# EAGLE library part XC3S400AFG320 (library xilinx_spartan3_virtex4_and_5)
Xilinx FPGA
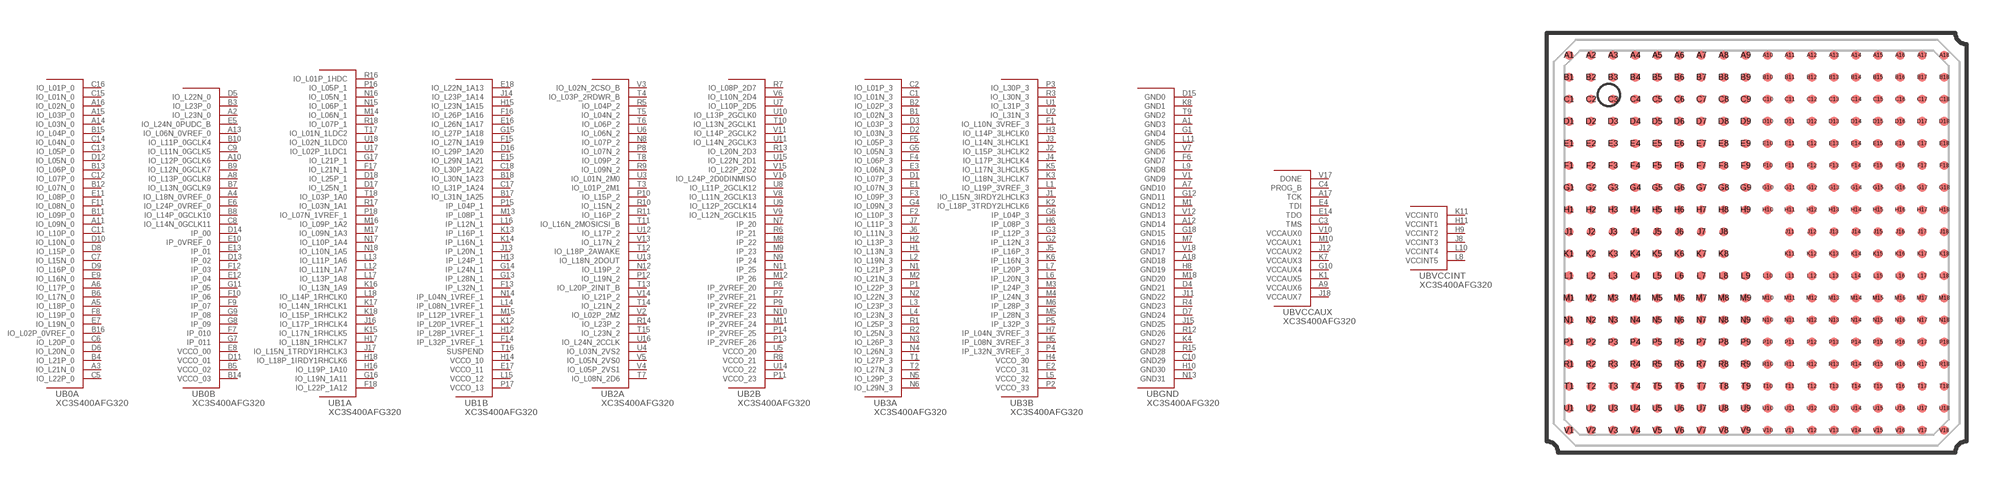
[diagram p32: symbol with the pads of FG320; footprint FG320]

Designator prefix U; gates B0A=XC3S400AFG320_0A B0B=XC3S400AFG320_0B B1A=XC3S400AFG320_1A B1B=XC3S400AFG320_1B B2A=XC3S400AFG320_2A B2B=XC3S400AFG320_2B B3A=XC3S400AFG320_3A B3B=XC3S400AFG320_3B BGND=XC3S400AFG320_GND BVCCAUX=XC3S400AFG320_VCCAUX BVCCINT=XC3S400AFG320_VCCINT

## XC3S400AFG320  [FG320]
A1  BGND:GND3  pas
A2  B0B:IO_L23N_0
A3  B0A:IO_L21N_0
A4  B0B:IO_L18N_0VREF_0
A5  B0A:IO_L18P_0
A6  B0A:IO_L17P_0
A7  BGND:GND10  pas
A8  B0B:IO_L13P_0GCLK8
A9  BVCCAUX:VCCAUX6  pas
A10  B0B:IO_L12P_0GCLK6
A11  B0A:IO_L09N_0
A12  BGND:GND14  pas
A13  B0B:IO_L06N_0VREF_0
A14  B0A:IO_L03N_0
A15  B0A:IO_L03P_0
A16  B0A:IO_L02N_0
A17  BVCCAUX:TCK
A18  BGND:GND18  pas
B1  B3A:IO_L02N_3
B2  B3A:IO_L02P_3
B3  B0B:IO_L23P_0
B4  B0A:IO_L21P_0
B5  B0B:VCCO_02  pas
B6  B0A:IO_L17N_0
B7  B0B:IO_L13N_0GCLK9
B8  B0B:IO_L14P_0GCLK10
B9  B0B:IO_L12N_0GCLK7
B10  B0B:IO_L11P_0GCLK4
B11  B0A:IO_L09P_0
B12  B0A:IO_L07N_0
B13  B0A:IO_L06P_0
B14  B0B:VCCO_03  pas
B15  B0A:IO_L04P_0
B16  B0A:IO_L02P_0VREF_0
B17  B1B:IO_L31N_1A25
B18  B1B:IO_L30N_1A23
C1  B3A:IO_L01N_3
C2  B3A:IO_L01P_3
C3  BVCCAUX:TMS
C4  BVCCAUX:PROG_B
C5  B0A:IO_L22P_0
C6  B0A:IO_L20P_0
C7  B0A:IO_L15N_0
C8  B0B:IO_L14N_0GCLK11
C9  B0B:IO_L11N_0GCLK5
C10  BGND:GND29  pas
C11  B0A:IO_L10P_0
C12  B0A:IO_L07P_0
C13  B0A:IO_L05P_0
C14  B0A:IO_L04N_0
C15  B0A:IO_L01N_0
C16  B0A:IO_L01P_0
C17  B1B:IO_L31P_1A24
C18  B1B:IO_L30P_1A22
D1  B3A:IO_L07P_3
D2  B3A:IO_L03N_3
D3  B3A:IO_L03P_3
D4  BGND:GND21  pas
D5  B0B:IO_L22N_0
D6  B0A:IO_L20N_0
D7  BGND:GND24  pas
D8  B0A:IO_L15P_0
D9  B0A:IO_L16P_0
D10  B0A:IO_L10N_0
D11  B0B:VCCO_01  pas
D12  B0A:IO_L05N_0
D13  B0B:IP_02
D14  B0B:IP_00
D15  BGND:GND0  pas
D16  B1B:IO_L29P_1A20
D17  B1A:IO_L25N_1
D18  B1A:IO_L25P_1
E1  B3A:IO_L07N_3
E2  B3B:VCCO_31  pas
E3  B3A:IO_L06N_3
E4  BVCCAUX:TDI
E5  B0B:IO_L24N_0PUDC_B
E6  B0B:IO_L24P_0VREF_0
E7  B0A:IO_L19N_0
E8  B0B:VCCO_00  pas
E9  B0A:IO_L16N_0
E10  B0B:IP_0VREF_0
E11  B0A:IO_L08P_0
E12  B0B:IP_04
E13  B0B:IP_01
E14  BVCCAUX:TDO
E15  B1B:IO_L29N_1A21
E16  B1B:IO_L26N_1A17
E17  B1B:VCCO_11  pas
E18  B1B:IO_L22N_1A13
F1  B3B:IO_L10N_3VREF_3
F2  B3A:IO_L10P_3
F3  B3A:IO_L09P_3
F4  B3A:IO_L06P_3
F5  B3A:IO_L05P_3
F6  BGND:GND7  pas
F7  B0B:IP_010
F8  B0A:IO_L19P_0
F9  B0B:IP_07
F10  B0B:IP_06
F11  B0A:IO_L08N_0
F12  B0B:IP_03
F13  B1B:IP_L32N_1
F14  B1B:IP_L32P_1VREF_1
F15  B1B:IO_L27N_1A19
F16  B1B:IO_L26P_1A16
F17  B1A:IO_L21N_1
F18  B1A:IO_L22P_1A12
G1  BGND:GND4  pas
G2  B3B:IP_L12N_3
G3  B3B:IP_L12P_3
G4  B3A:IO_L09N_3
G5  B3A:IO_L05N_3
G6  B3B:IP_L04P_3
G7  B0B:IP_011
G8  B0B:IP_09
G9  B0B:IP_08
G10  BVCCAUX:VCCAUX4  pas
G11  B0B:IP_05
G12  BGND:GND11  pas
G13  B1B:IP_L28N_1
G14  B1B:IP_L24N_1
G15  B1B:IO_L27P_1A18
G16  B1A:IO_L19N_1A11
G17  B1A:IO_L21P_1
G18  BGND:GND15  pas
H1  B3A:IO_L13N_3
H2  B3A:IO_L13P_3
H3  B3B:IO_L14P_3LHCLK0
H4  B3B:VCCO_30  pas
H5  B3B:IP_L08N_3VREF_3
H6  B3B:IP_L08P_3
H7  B3B:IP_L04N_3VREF_3
H8  BGND:GND19  pas
H9  BVCCINT:VCCINT2  pas
H10  BGND:GND30  pas
H11  BVCCINT:VCCINT1  pas
H12  B1B:IP_L28P_1VREF_1
H13  B1B:IP_L24P_1
H14  B1B:VCCO_10  pas
H15  B1B:IO_L23N_1A15
H16  B1A:IO_L19P_1A10
H17  B1A:IO_L18N_1RHCLK7
H18  B1A:IO_L18P_1IRDY1RHCLK6
J1  B3B:IO_L15N_3IRDY2LHCLK3
J2  B3B:IO_L15P_3LHCLK2
J3  B3B:IO_L14N_3LHCLK1
J4  B3B:IO_L17P_3LHCLK4
J5  B3B:IP_L16P_3
J6  B3A:IO_L11N_3
J7  B3A:IO_L11P_3
J8  BVCCINT:VCCINT3  pas
J11  BGND:GND22  pas
J12  BVCCAUX:VCCAUX2  pas
J13  B1B:IP_L20N_1
J14  B1B:IO_L23P_1A14
J15  BGND:GND25  pas
J16  B1A:IO_L17P_1RHCLK4
J17  B1A:IO_L15N_1TRDY1RHCLK3
J18  BVCCAUX:VCCAUX7  pas
K1  BVCCAUX:VCCAUX5  pas
K2  B3B:IO_L18P_3TRDY2LHCLK6
K3  B3B:IO_L18N_3LHCLK7
K4  BGND:GND27  pas
K5  B3B:IO_L17N_3LHCLK5
K6  B3B:IP_L16N_3
K7  BVCCAUX:VCCAUX3  pas
K8  BGND:GND1  pas
K11  BVCCINT:VCCINT0  pas
K12  B1B:IP_L20P_1VREF_1
K13  B1B:IP_L16P_1
K14  B1B:IP_L16N_1
K15  B1A:IO_L17N_1RHCLK5
K16  B1A:IO_L13N_1A9
K17  B1A:IO_L14N_1RHCLK1
K18  B1A:IO_L15P_1RHCLK2
L1  B3B:IO_L19P_3VREF_3
L2  B3A:IO_L19N_3
L3  B3A:IO_L23P_3
L4  B3A:IO_L23N_3
L5  B3B:VCCO_32  pas
L6  B3B:IP_L20N_3
L7  B3B:IP_L20P_3
L8  BVCCINT:VCCINT5  pas
L9  BGND:GND8  pas
L10  BVCCINT:VCCINT4  pas
L11  BGND:GND5  pas
L12  B1A:IO_L11N_1A7
L13  B1A:IO_L11P_1A6
L14  B1B:IP_L08N_1VREF_1
L15  B1B:VCCO_12  pas
L16  B1B:IP_L12N_1
L17  B1A:IO_L13P_1A8
L18  B1A:IO_L14P_1RHCLK0
M1  BGND:GND12  pas
M2  B3A:IO_L21N_3
M3  B3B:IP_L24P_3
M4  B3B:IP_L24N_3
M5  B3B:IP_L28N_3
M6  B3B:IP_L28P_3
M7  BGND:GND16  pas
M8  B2B:IP_22
M9  B2B:IP_23
M10  BVCCAUX:VCCAUX1  pas
M11  B2B:IP_2VREF_24
M12  B2B:IP_26
M13  B1B:IP_L08P_1
M14  B1A:IO_L06N_1
M15  B1B:IP_L12P_1VREF_1
M16  B1A:IO_L09P_1A2
M17  B1A:IO_L09N_1A3
M18  BGND:GND20  pas
N1  B3A:IO_L21P_3
N2  B3A:IO_L22N_3
N3  B3A:IO_L26P_3
N4  B3A:IO_L26N_3
N5  B3A:IO_L29P_3
N6  B3A:IO_L29N_3
N7  B2B:IP_20
N8  B2A:IO_L07P_2
N9  B2B:IP_24
N10  B2B:IP_2VREF_23
N11  B2B:IP_25
N12  B2A:IO_L19P_2
N13  BGND:GND31  pas
N14  B1B:IP_L04N_1VREF_1
N15  B1A:IO_L06P_1
N16  B1A:IO_L05N_1
N17  B1A:IO_L10P_1A4
N18  B1A:IO_L10N_1A5
P1  B3A:IO_L22P_3
P2  B3B:VCCO_33  pas
P3  B3B:IO_L30P_3
P4  B3B:IP_L32N_3VREF_3
P5  B3B:IP_L32P_3
P6  B2B:IP_2VREF_20
P7  B2B:IP_2VREF_21
P8  B2A:IO_L07N_2
P9  B2B:IP_2VREF_22
P10  B2A:IO_L15P_2
P11  B2B:VCCO_23  pas
P12  B2A:IO_L19N_2
P13  B2B:IP_2VREF_26
P14  B2B:IP_2VREF_25
P15  B1B:IP_L04P_1
P16  B1A:IO_L05P_1
P17  B1B:VCCO_13  pas
P18  B1A:IO_L07N_1VREF_1
R1  B3A:IO_L25P_3
R2  B3A:IO_L25N_3
R3  B3B:IO_L30N_3
R4  BGND:GND23  pas
R5  B2A:IO_L04P_2
R6  B2B:IP_21
R7  B2B:IO_L08P_2D7
R8  B2B:VCCO_21  pas
R9  B2A:IO_L09N_2
R10  B2A:IO_L15N_2
R11  B2A:IO_L16P_2
R12  BGND:GND26  pas
R13  B2B:IO_L20N_2D3
R14  B2A:IO_L23P_2
R15  BGND:GND28  pas
R16  B1A:IO_L01P_1HDC
R17  B1A:IO_L03N_1A1
R18  B1A:IO_L07P_1
T1  B3A:IO_L27P_3
T2  B3A:IO_L27N_3
T3  B2A:IO_L01P_2M1
T4  B2A:IO_L03P_2RDWR_B
T5  B2A:IO_L04N_2
T6  B2A:IO_L06P_2
T7  B2A:IO_L08N_2D6
T8  B2A:IO_L09P_2
T9  BGND:GND2  pas
T10  B2B:IO_L13N_2GCLK1
T11  B2A:IO_L16N_2MOSICSI_B
T12  B2A:IO_L18P_2AWAKE
T13  B2A:IO_L20P_2INIT_B
T14  B2A:IO_L21N_2
T15  B2A:IO_L23N_2
T16  B1B:SUSPEND
T17  B1A:IO_L01N_1LDC2
T18  B1A:IO_L03P_1A0
U1  B3B:IO_L31P_3
U2  B3B:IO_L31N_3
U3  B2A:IO_L01N_2M0
U4  B2A:IO_L03N_2VS2
U5  B2B:VCCO_20  pas
U6  B2A:IO_L06N_2
U7  B2B:IO_L10P_2D5
U8  B2B:IO_L11P_2GCLK12
U9  B2B:IO_L12P_2GCLK14
U10  B2B:IO_L13P_2GCLK0
U11  B2B:IO_L14N_2GCLK3
U12  B2A:IO_L17P_2
U13  B2A:IO_L18N_2DOUT
U14  B2B:VCCO_22  pas
U15  B2B:IO_L22N_2D1
U16  B2A:IO_L24N_2CCLK
U17  B1A:IO_L02P_1LDC1
U18  B1A:IO_L02N_1LDC0
V1  BGND:GND9  pas
V2  B2A:IO_L02P_2M2
V3  B2A:IO_L02N_2CSO_B
V4  B2A:IO_L05P_2VS1
V5  B2A:IO_L05N_2VS0
V6  B2B:IO_L10N_2D4
V7  BGND:GND6  pas
V8  B2B:IO_L11N_2GCLK13
V9  B2B:IO_L12N_2GCLK15
V10  BVCCAUX:VCCAUX0  pas
V11  B2B:IO_L14P_2GCLK2
V12  BGND:GND13  pas
V13  B2A:IO_L17N_2
V14  B2A:IO_L21P_2
V15  B2B:IO_L22P_2D2
V16  B2B:IO_L24P_2D0DINMISO
V17  BVCCAUX:DONE
V18  BGND:GND17  pas

## Footprint FG320 (pad centres in mm)
smd 0.4 x 0.4: A1 -8.5,8.5; A2 -7.5,8.5; A3 -6.5,8.5; A4 -5.5,8.5; A5 -4.5,8.5; A6 -3.5,8.5; A7 -2.5,8.5; A8 -1.5,8.5; A9 -0.5,8.5; A10 0.5,8.5; A11 1.5,8.5; A12 2.5,8.5; A13 3.5,8.5; A14 4.5,8.5; A15 5.5,8.5; A16 6.5,8.5; A17 7.5,8.5; A18 8.5,8.5; B1 -8.5,7.5; B2 -7.5,7.5; B3 -6.5,7.5; B4 -5.5,7.5; B5 -4.5,7.5; B6 -3.5,7.5; B7 -2.5,7.5; B8 -1.5,7.5; B9 -0.5,7.5; B10 0.5,7.5; B11 1.5,7.5; B12 2.5,7.5; B13 3.5,7.5; B14 4.5,7.5; B15 5.5,7.5; B16 6.5,7.5; B17 7.5,7.5; B18 8.5,7.5; C1 -8.5,6.5; C2 -7.5,6.5; C3 -6.5,6.5; C4 -5.5,6.5; C5 -4.5,6.5; C6 -3.5,6.5; C7 -2.5,6.5; C8 -1.5,6.5; C9 -0.5,6.5; C10 0.5,6.5; C11 1.5,6.5; C12 2.5,6.5; C13 3.5,6.5; C14 4.5,6.5; C15 5.5,6.5; C16 6.5,6.5; C17 7.5,6.5; C18 8.5,6.5; D1 -8.5,5.5; D2 -7.5,5.5; D3 -6.5,5.5; D4 -5.5,5.5; D5 -4.5,5.5; D6 -3.5,5.5; D7 -2.5,5.5; D8 -1.5,5.5; D9 -0.5,5.5; D10 0.5,5.5; D11 1.5,5.5; D12 2.5,5.5; D13 3.5,5.5; D14 4.5,5.5; D15 5.5,5.5; D16 6.5,5.5; D17 7.5,5.5; D18 8.5,5.5; E1 -8.5,4.5; E2 -7.5,4.5; E3 -6.5,4.5; E4 -5.5,4.5; E5 -4.5,4.5; E6 -3.5,4.5; E7 -2.5,4.5; E8 -1.5,4.5; E9 -0.5,4.5; E10 0.5,4.5; E11 1.5,4.5; E12 2.5,4.5; E13 3.5,4.5; E14 4.5,4.5; E15 5.5,4.5; E16 6.5,4.5; E17 7.5,4.5; E18 8.5,4.5; F1 -8.5,3.5; F2 -7.5,3.5; F3 -6.5,3.5; F4 -5.5,3.5; F5 -4.5,3.5; F6 -3.5,3.5; F7 -2.5,3.5; F8 -1.5,3.5; F9 -0.5,3.5; F10 0.5,3.5; F11 1.5,3.5; F12 2.5,3.5; F13 3.5,3.5; F14 4.5,3.5; F15 5.5,3.5; F16 6.5,3.5; F17 7.5,3.5; F18 8.5,3.5; G1 -8.5,2.5; G2 -7.5,2.5; G3 -6.5,2.5; G4 -5.5,2.5; G5 -4.5,2.5; G6 -3.5,2.5; G7 -2.5,2.5; G8 -1.5,2.5; G9 -0.5,2.5; G10 0.5,2.5; G11 1.5,2.5; G12 2.5,2.5; G13 3.5,2.5; G14 4.5,2.5; G15 5.5,2.5; G16 6.5,2.5; G17 7.5,2.5; G18 8.5,2.5; H1 -8.5,1.5; H2 -7.5,1.5; H3 -6.5,1.5; H4 -5.5,1.5; H5 -4.5,1.5; H6 -3.5,1.5; H7 -2.5,1.5; H8 -1.5,1.5; H9 -0.5,1.5; H10 0.5,1.5; H11 1.5,1.5; H12 2.5,1.5; H13 3.5,1.5; H14 4.5,1.5; H15 5.5,1.5; H16 6.5,1.5; H17 7.5,1.5; H18 8.5,1.5; J1 -8.5,0.5; J2 -7.5,0.5; J3 -6.5,0.5; J4 -5.5,0.5; J5 -4.5,0.5; J6 -3.5,0.5; J7 -2.5,0.5; J8 -1.5,0.5; J11 1.5,0.5; J12 2.5,0.5; J13 3.5,0.5; J14 4.5,0.5; J15 5.5,0.5; J16 6.5,0.5; J17 7.5,0.5; J18 8.5,0.5; K1 -8.5,-0.5; K2 -7.5,-0.5; K3 -6.5,-0.5; K4 -5.5,-0.5; K5 -4.5,-0.5; K6 -3.5,-0.5; K7 -2.5,-0.5; K8 -1.5,-0.5; K11 1.5,-0.5; K12 2.5,-0.5; K13 3.5,-0.5; K14 4.5,-0.5; K15 5.5,-0.5; K16 6.5,-0.5; K17 7.5,-0.5; K18 8.5,-0.5; L1 -8.5,-1.5; L2 -7.5,-1.5; L3 -6.5,-1.5; L4 -5.5,-1.5; L5 -4.5,-1.5; L6 -3.5,-1.5; L7 -2.5,-1.5; L8 -1.5,-1.5; L9 -0.5,-1.5; L10 0.5,-1.5; L11 1.5,-1.5; L12 2.5,-1.5; L13 3.5,-1.5; L14 4.5,-1.5; L15 5.5,-1.5; L16 6.5,-1.5; L17 7.5,-1.5; L18 8.5,-1.5; M1 -8.5,-2.5; M2 -7.5,-2.5; M3 -6.5,-2.5; M4 -5.5,-2.5; M5 -4.5,-2.5; M6 -3.5,-2.5; M7 -2.5,-2.5; M8 -1.5,-2.5; M9 -0.5,-2.5; M10 0.5,-2.5; M11 1.5,-2.5; M12 2.5,-2.5; M13 3.5,-2.5; M14 4.5,-2.5; M15 5.5,-2.5; M16 6.5,-2.5; M17 7.5,-2.5; M18 8.5,-2.5; N1 -8.5,-3.5; N2 -7.5,-3.5; N3 -6.5,-3.5; N4 -5.5,-3.5; N5 -4.5,-3.5; N6 -3.5,-3.5; N7 -2.5,-3.5; N8 -1.5,-3.5; N9 -0.5,-3.5; N10 0.5,-3.5; N11 1.5,-3.5; N12 2.5,-3.5; N13 3.5,-3.5; N14 4.5,-3.5; N15 5.5,-3.5; N16 6.5,-3.5; N17 7.5,-3.5; N18 8.5,-3.5; P1 -8.5,-4.5; P2 -7.5,-4.5; P3 -6.5,-4.5; P4 -5.5,-4.5; P5 -4.5,-4.5; P6 -3.5,-4.5; P7 -2.5,-4.5; P8 -1.5,-4.5; P9 -0.5,-4.5; P10 0.5,-4.5; P11 1.5,-4.5; P12 2.5,-4.5; P13 3.5,-4.5; P14 4.5,-4.5; P15 5.5,-4.5; P16 6.5,-4.5; P17 7.5,-4.5; P18 8.5,-4.5; R1 -8.5,-5.5; R2 -7.5,-5.5; R3 -6.5,-5.5; R4 -5.5,-5.5; R5 -4.5,-5.5; R6 -3.5,-5.5; R7 -2.5,-5.5; R8 -1.5,-5.5; R9 -0.5,-5.5; R10 0.5,-5.5; R11 1.5,-5.5; R12 2.5,-5.5; R13 3.5,-5.5; R14 4.5,-5.5; R15 5.5,-5.5; R16 6.5,-5.5; R17 7.5,-5.5; R18 8.5,-5.5; T1 -8.5,-6.5; T2 -7.5,-6.5; T3 -6.5,-6.5; T4 -5.5,-6.5; T5 -4.5,-6.5; T6 -3.5,-6.5; T7 -2.5,-6.5; T8 -1.5,-6.5; T9 -0.5,-6.5; T10 0.5,-6.5; T11 1.5,-6.5; T12 2.5,-6.5; T13 3.5,-6.5; T14 4.5,-6.5; T15 5.5,-6.5; T16 6.5,-6.5; T17 7.5,-6.5; T18 8.5,-6.5; U1 -8.5,-7.5; U2 -7.5,-7.5; U3 -6.5,-7.5; U4 -5.5,-7.5; U5 -4.5,-7.5; U6 -3.5,-7.5; U7 -2.5,-7.5; U8 -1.5,-7.5; U9 -0.5,-7.5; U10 0.5,-7.5; U11 1.5,-7.5; U12 2.5,-7.5; U13 3.5,-7.5; U14 4.5,-7.5; U15 5.5,-7.5; U16 6.5,-7.5; U17 7.5,-7.5; U18 8.5,-7.5; V1 -8.5,-8.5; V2 -7.5,-8.5; V3 -6.5,-8.5; V4 -5.5,-8.5; V5 -4.5,-8.5; V6 -3.5,-8.5; V7 -2.5,-8.5; V8 -1.5,-8.5; V9 -0.5,-8.5; V10 0.5,-8.5; V11 1.5,-8.5; V12 2.5,-8.5; V13 3.5,-8.5; V14 4.5,-8.5; V15 5.5,-8.5; V16 6.5,-8.5; V17 7.5,-8.5; V18 8.5,-8.5